# EAGLE library part IRS21867S (library International_Rectifier_By_element14_Batch_1)
IC MOSFET DRIVER H/L INDEP SOIC-8
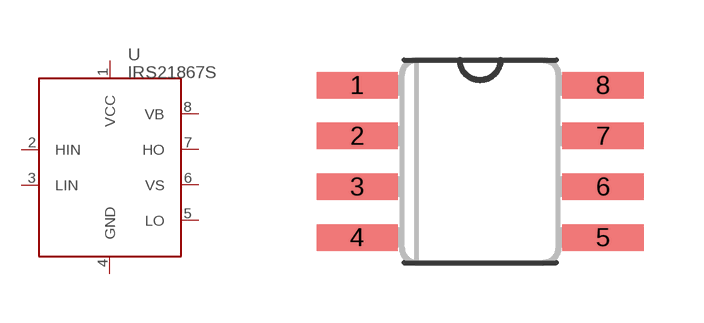
[diagram p108: symbol with the pads of SOIC8; footprint SOIC8]

Designator prefix U

## IRS21867S (DIGIKEY: IRS21867STRPBFCT-ND; P1I: o)  [SOIC8]
1  VCC
2  HIN
3  LIN
4  GND
5  LO
6  VS
7  HO
8  VB

## Footprint SOIC8 (pad centres in mm)
Small Outline Package
smd 2.032 x 0.66: 1 -3.073,1.905; 2 -3.073,0.635; 3 -3.073,-0.635; 4 -3.073,-1.905; 5 3.073,-1.905; 6 3.073,-0.635; 7 3.073,0.635; 8 3.073,1.905